# Altium footprint library WURTH_691311500002.PcbLib: 1 footprints
Each footprint in its own frame and in the unit in brackets; x right, y up, seen from the top. Pads: shape width x height; smd on the part's side, far side on the other; paste and mask are expansions set on the pad; w line width, h text height; cw(c..) or ccw(c..) is an arc to the next point about the centre after c.
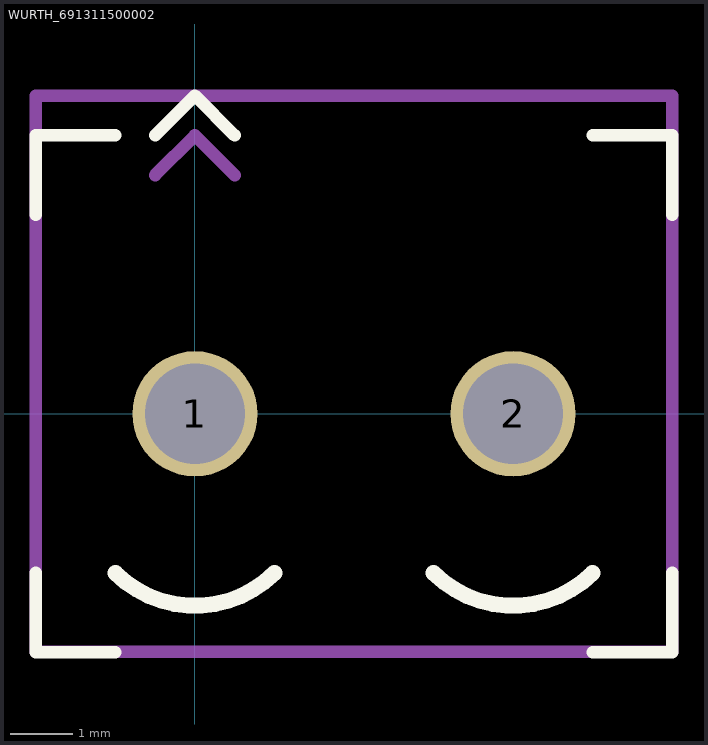
[diagram p0: the footprint, top view; thin cyan lines are the x and y axes]

## WURTH_691311500002 [mm]
height 12
pads (2):
  round 2 hole 1.6: 1(0,0) 2(5.08,0)
Top Overlay:
  lines w0.2: -2.54,-2.54 -2.54,-3.665 -2.54,-3.81 -1.27,-3.81 ; -2.54,3.175 -2.54,4.445 -2.395,4.445 -1.27,4.445 ; -0.635,4.445 0,5.08 0.635,4.445 ; 6.35,-3.81 7.62,-3.81 7.62,-3.665 7.62,-2.54 ; 6.35,4.445 7.475,4.445 7.62,4.445 7.62,3.175
  lines w0.254: -1.27,-2.54 ccw(c0,-1.27) 1.27,-2.54 ; 3.81,-2.54 ccw(c5.08,-1.27) 6.35,-2.54
Mechanical 15:
  lines w0.2: -0.635,3.81 0,4.445 0.635,3.81 ; -2.54,-3.8 7.62,-3.8 7.62,5.08 -2.54,5.08 -2.54,-3.8
3D body "691311500002 (rev1).stp": height 12, standoff -4, extent -2.54,-3.8 7.62,4.7